# EAGLE library part DS1307 (library clocks)
I2C Serial RTC w/56 bytes battery backed RAM
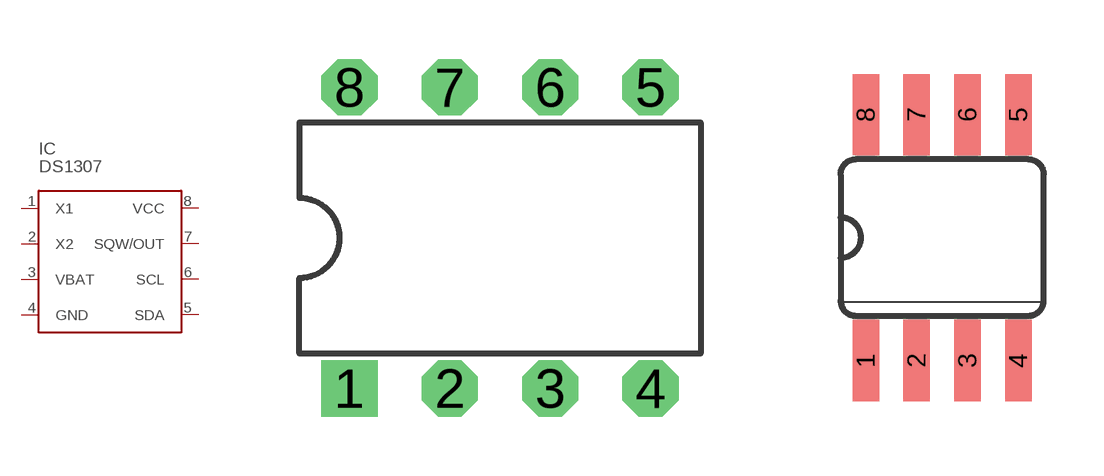
[diagram p0: symbol with the pads of DIP08; footprints DIP08, SOIC08]

Designator prefix IC

## DS1307N  [DIP08]
1  X1  in
2  X2  out
3  VBAT
4  GND
5  SDA
6  SCL  in
7  SQW/OUT  out
8  VCC

## DS1307S  [SOIC08]
Pads as for DIP08

## Footprint DIP08 (pad centres in mm)
drill 0.7 pad 1.422 square: 1 -3.81,-3.81
drill 0.7 pad 1.422 octagon: 2 -1.27,-3.81; 3 1.27,-3.81; 4 3.81,-3.81; 5 3.81,3.81; 6 1.27,3.81; 7 -1.27,3.81; 8 -3.81,3.81

## Footprint SOIC08 (pad centres in mm)
Small Outline Package
smd 0.66 x 2.032: 1 -1.905,-3.073; 2 -0.635,-3.073; 3 0.635,-3.073; 4 1.905,-3.073; 5 1.905,3.073; 6 0.635,3.073; 7 -0.635,3.073; 8 -1.905,3.073